# Altium schematic symbol library 3031.SchLib: 2 symbols
Pins are listed as number, name and electrical type; pins without a type are passive.

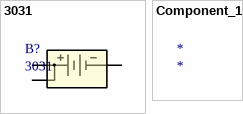
[diagram p0: symbols 3031 to Component_1]

## 3031
designator B?
No Description Available; Vendor: Keystone Electronics; Built_By: EMA_Cory; SourceLibrary: Add_to_database_2021-02-19; VALUE_2: Value; Datasheet: https://www.mouser.com/datasheet/2/215/031-745379.pdf; Manufacturer_Part_Number: 3031; Copyright: Copyright (C) 2018 Accelerated Designs. All rights reserved; RefDes: RefDes; Type: DEV
footprint 3031_KEY
pins: 1, 2, 3

## Component_1
designator *